# Altium footprint library TO-263-7 Thin.PcbLib: 1 footprints
Each footprint in its own frame and in the unit in brackets; x right, y up, seen from the top. Pads: shape width x height; smd on the part's side, far side on the other; paste and mask are expansions set on the pad; w line width, h text height; cw(c..) or ccw(c..) is an arc to the next point about the centre after c.
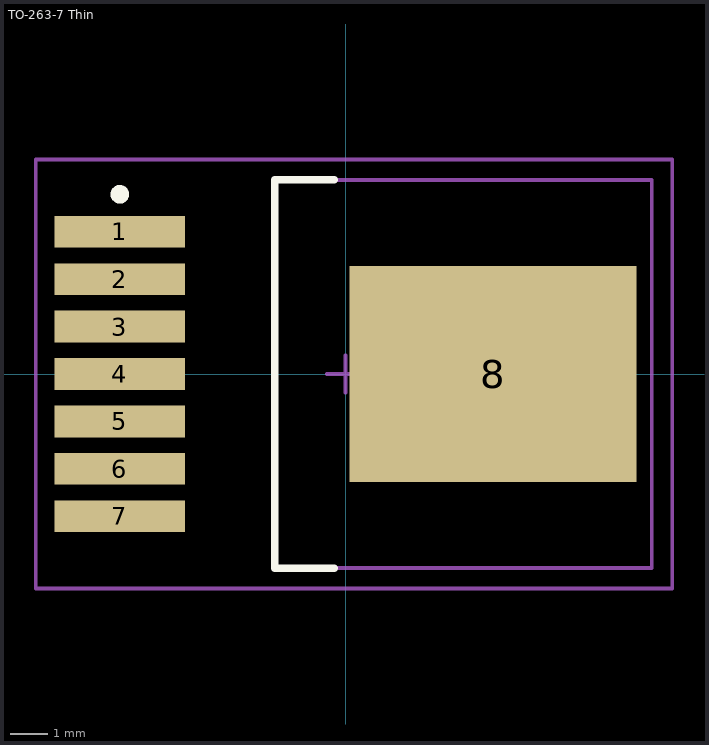
[diagram p0: the footprint, top view; thin cyan lines are the x and y axes]

## TO-263-7 Thin [mm]
pads (8):
  rect 3.5x0.85 smd: 1(-6.05,3.81) 2(-6.05,2.54) 3(-6.05,1.27) 4(-6.05,0) 5(-6.05,-1.27) 6(-6.05,-2.54) 7(-6.05,-3.81)
  rect 7.7x5.8 smd: 8(3.95,0)
Top Overlay:
  circle w0.25: c-6.05,4.815 r0.125
  lines w0.2: -0.3,-5.2 -1.9,-5.2 -1.9,5.2 -0.3,5.2
Mechanical 13:
  lines w0.1: -1.9,-5.2 8.2,-5.2 8.2,5.2 -1.9,5.2 -1.9,-5.2
Mechanical 15:
  lines w0.1: -0.5,0 0.5,0 ; 0,-0.5 0,0.5 ; -8.3,-5.75 8.75,-5.75 8.75,5.75 -8.3,5.75 -8.3,-5.75
3D body: height 2, standoff -0.01, extent -5.989,-5.08 8.021,5.08